# Altium schematic symbol library B534CQ-13-F.SchLib: 1 symbol
Pins are listed as number, name and electrical type; pins without a type are passive.

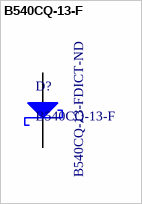
[diagram p0: symbol B540CQ-13-F]

## B540CQ-13-F
designator D?  Supplier Part Number 1: B540CQ-13-FDICT-ND
5A SURFACE MOUNT SCHOTTKY BARRIER RECTIFIER; Manufacturer: Diodes; Description: DIODE SCHOTTKY 40V 5A SMC; Max Repetitive Reverse Voltage (Vrrm): 40V; Peak Reverse Current: 500uA; Element Configuration: Single; Peak Non-Repetitive Surge Current: 100A; Supplier 1: Digi-Key; Manufacturer Part Number: B540CQ-13-F; Stock 1: 50771; Pricing 1: 1=0.54, 10=0.464, 100=0.3461, 500=0.27192, 1000=0.21012 (USD); Mount: Surface Mount; Case/Package: SMC; Number of Pins: 2; Contact Plating: Tin,Matte; Min Operating Temperature: -55°C; Max Operating Temperature: 150°C; Packaging: Tape and Reel; Average Rectified Current: 5A; Forward Current: 5A; Max Reverse Voltage (DC): 40V
pins: 1, 2